# Altium schematic symbol library LT3991EMSE#PBF.SchLib: 1 symbol
Pins are listed as number, name and electrical type; pins without a type are passive.

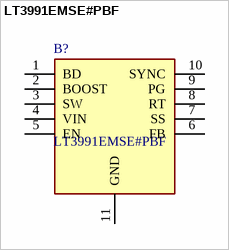
[diagram p0: symbol LT3991EMSE#PBF]

## LT3991EMSE#PBF
designator B?
LINEAR TECHNOLOGY - LT3991EMSE#PBF - DC-DC Switching Buck (Step Down) Regulator, Adjustable, 4.3V-55Vin, 1.19V-30Vout, 1.2Aout, MSOP-10; Manufacturer_Name: Analog Devices; Geometry.Height: 1.1mm; Manufacturer_Part_Number: LT3991EMSE#PBF; Mouser Part Number: 584-LT3991EMSE#PBF; Mouser Price/Stock: https://www.mouser.co.uk/ProductDetail/Analog-Devices-Linear-Technology/LT3991EMSEPBF?qs=hVkxg5c3xu%2FPU%252Bq5oSghVA%3D%3D; Arrow Part Number: LT3991EMSE#PBF; Arrow Price/Stock: https://www.arrow.com/en/products/lt3991emsepbf/analog-devices; Datasheet Link: https://datasheet.datasheetarchive.com/originals/distributors/Datasheets-SFU4/DSASF4000-3355.pdf
footprint SOP50P490X110-11N
pins: 1 BD, 2 BOOST, 3 SW, 4 VIN, 5 EN, 6 FB, 7 SS, 8 RT, 9 PG, 10 SYNC, 11 GND